# Altium footprint library PCB - CONNECTOR - JST - JST S5B-PH-SM4-TB.PCBLIB: 1 footprints
Each footprint in its own frame and in the unit in brackets; x right, y up, seen from the top. Pads: shape width x height; smd on the part's side, far side on the other; paste and mask are expansions set on the pad; w line width, h text height; cw(c..) or ccw(c..) is an arc to the next point about the centre after c.
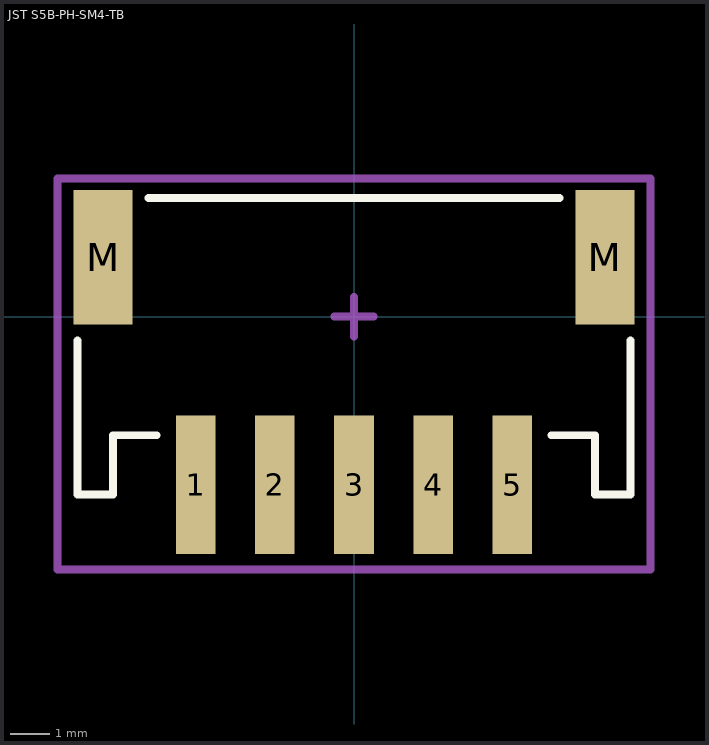
[diagram p0: the footprint, top view; thin cyan lines are the x and y axes]

## JST S5B-PH-SM4-TB [mm] "JST PH Series 2mm pitch, side entry connector"
height 5.5
pads (7):
  rect 1x3.5 smd: 1(-4,-4.25) 2(-2,-4.25) 3(0,-4.25) 4(2,-4.25) 5(4,-4.25)
  rect 1.5x3.4 smd: M(-6.35,1.5) M(6.35,1.5)
Top Overlay:
  lines w0.2: -7,-0.6 -7,-4.5 -6.1,-4.5 -6.1,-3 -5,-3 ; -5.2,3 5.2,3 ; 5,-3 6.1,-3 6.1,-4.5 7,-4.5 7,-0.6
Mechanical 15:
  lines w0.2: -0.5,0 0.5,0 ; 0,-0.5 0,0.5 ; -7.5,-6.4 7.5,-6.4 7.5,3.5 -7.5,3.5 -7.5,-6.4
3D body "JST S5B-PH-SM4-TB.step": height 5.6, standoff 0, extent -6.95,-5.6 6.95,3.01